# EAGLE library part ATMEGA4809-PF (library U-AVR)
ATMEGA4809-PF 20MHZ 48KB PDIP48 IND 125C GREEN
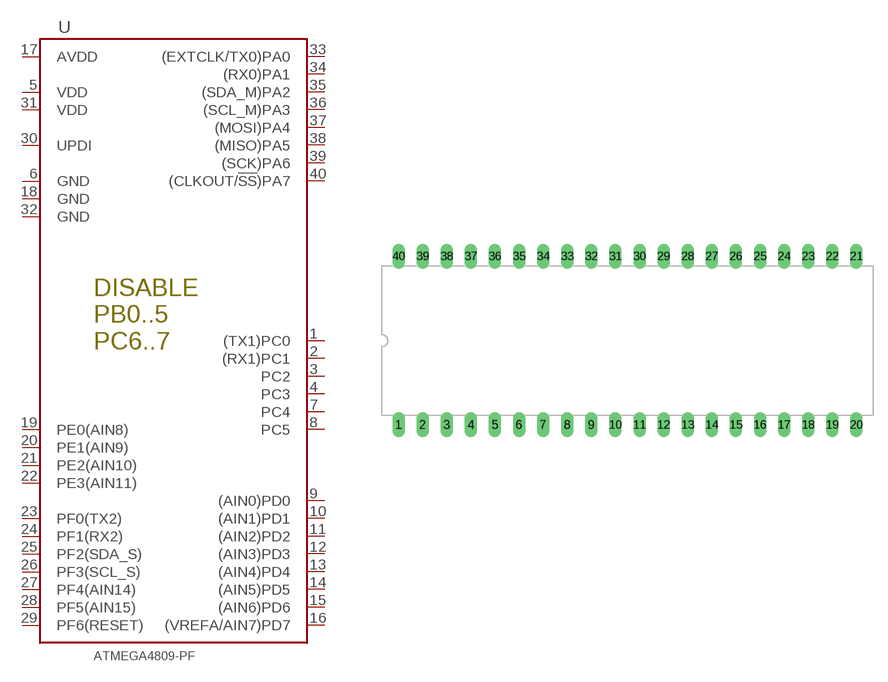
[diagram p18: symbol with the pads of DIL40; footprint DIL40]

Designator prefix U

## ATMEGA4809-PFDIL40  [DIL40]
1  (TX1)PC0
2  (RX1)PC1
3  PC2
4  PC3
5  VDD  pwr
6  GND  pwr
7  PC4
8  PC5
9  (AIN0)PD0
10  (AIN1)PD1
11  (AIN2)PD2
12  (AIN3)PD3
13  (AIN4)PD4
14  (AIN5)PD5
15  (AIN6)PD6
16  (VREFA/AIN7)PD7
17  AVDD  pas
18  GND  pwr
19  PE0(AIN8)
20  PE1(AIN9)
21  PE2(AIN10)
22  PE3(AIN11)
23  PF0(TX2)  pas
24  PF1(RX2)
25  PF2(SDA_S)
26  PF3(SCL_S)
27  PF4(AIN14)
28  PF5(AIN15)
29  PF6(RESET)
30  UPDI
31  VDD  pwr
32  GND  pwr
33  (EXTCLK/TX0)PA0
34  (RX0)PA1
35  (SDA_M)PA2
36  (SCL_M)PA3
37  (MOSI)PA4
38  (MISO)PA5
39  (SCK)PA6
40  (CLKOUT/!SS!)PA7

## Footprint DIL40 (pad centres in mm)
Dual In Line
drill 0.813 long: 1 0,0; 2 2.54,0; 3 5.08,0; 4 7.62,0; 5 10.16,0; 6 12.7,0; 7 15.24,0; 8 17.78,0; 9 20.32,0; 10 22.86,0; 11 25.4,0; 12 27.94,0; 13 30.48,0; 14 33.02,0; 15 35.56,0; 16 38.1,0; 17 40.64,0; 18 43.18,0; 19 45.72,0; 20 48.26,0; 21 48.26,17.78; 22 45.72,17.78; 23 43.18,17.78; 24 40.64,17.78; 25 38.1,17.78; 26 35.56,17.78; 27 33.02,17.78; 28 30.48,17.78; 29 27.94,17.78; 30 25.4,17.78; 31 22.86,17.78; 32 20.32,17.78; 33 17.78,17.78; 34 15.24,17.78; 35 12.7,17.78; 36 10.16,17.78; 37 7.62,17.78; 38 5.08,17.78; 39 2.54,17.78; 40 0,17.78